# EAGLE library part MOM-ON-MOM-DP (library bt_automotive)
Momentary DPDT switch
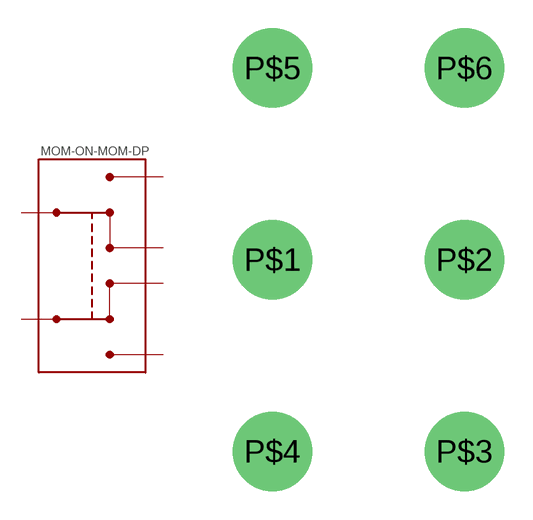
[diagram p0: symbol with the pads of 6; footprint 6]

Designator prefix -

## MOM-ON-MOM-DP  [6]
P$1  P$1
P$2  P$2
P$3  P$3
P$4  P$4
P$5  P$5
P$6  P$6

## Footprint 6 (pad centres in mm)
drill 3.2: P$1 -5.08,0; P$2 5.08,0; P$3 5.08,-10.16; P$4 -5.08,-10.16; P$5 -5.08,10.16; P$6 5.08,10.16